# Altium schematic symbol library 2019-09-20_17-09-41.SchLib: 2 symbols
Pins are listed as number, name and electrical type; pins without a type are passive.

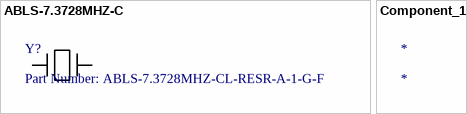
[diagram p0: symbols ABLS-7.3728MHZ-C to Component_1]

## ABLS-7.3728MHZ-C
designator Y?, comment Part Number: ABLS-7.3728MHZ-CL-RESR-A-1-G-F
No Description Available; Vendor: Abracon; Built_By: EMA_UL_Team; Manufacturer_Part_Number: ABLS-7.3728MHZ-CL-RESR-A-1-G-F; Copyright: Copyright (C) 2018 Accelerated Designs. All rights reserved; RefDes: RefDes; Type: DEV; Value: Value
footprint ABLS_Series
pins: 1, 2

## Component_1
designator *